# Altium schematic symbol library A10305RNZQ.SchLib: 1 symbol
Pins are listed as number, name and electrical type; pins without a type are passive.

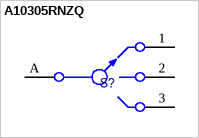
[diagram p0: symbol A10305RNZQ]

## A10305RNZQ
designator S?
pins: 1, 2, 3, A